# Altium schematic symbol library MPS.SchLib: 5 symbols
Pins are listed as number, name and electrical type; pins without a type are passive.

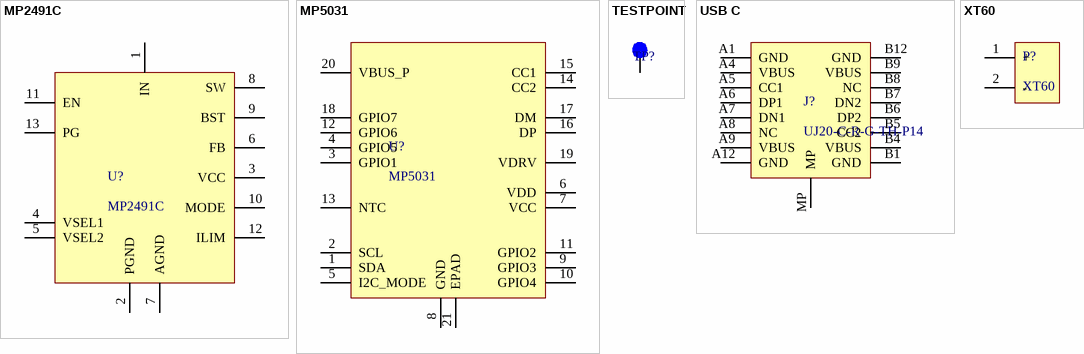
[diagram p0: symbols MP2491C to XT60]

## MP2491C
designator U?
footprint QFN-13-MPS2491C (QFN, 14-Leads, Body 2,50x2,55mm, Pitch 0,50mm/0,65mm, IPC Medium Density)
pins: 1 IN, 2 PGND, 3 VCC, 4 VSEL1, 5 VSEL2, 6 FB, 7 AGND, 8 SW, 9 BST, 10 MODE, 11 EN, 12 ILIM, 13 PG

## MP5031
designator U?
footprint QFN-20-MP5031 (QFN, 20-Leads, Body 4,00x4,00mm, Pitch 0,50mm, Thermal Pad 2,10x2,10mm, IPC Medium Density)
pins: 1 SDA, 2 SCL, 3 GPIO1, 4 GPIO5, 5 I2C_MODE, 6 VDD, 7 VCC, 8 GND, 9 GPIO3, 10 GPIO4, 11 GPIO2, 12 GPIO6, 13 NTC, 14 CC2, 15 CC1, 16 DP, 17 DM, 18 GPIO7, 19 VDRV, 20 VBUS_P, 21 EPAD

## TESTPOINT
designator TP?  (value not drawn)
footprint TESTPOINT_0.3
footprint TESTPOINT_0.6
pins: 1

## USB C
designator J?, comment UJ20-C-R-G-TH-P14
footprint UJ20-C-R-G-TH-P14
pins: A1 GND, A4 VBUS, A5 CC1, A6 DP1, A7 DN1, A8 NC, A9 VBUS, A12 GND, B1 GND, B4 VBUS, B5 CC2, B6 DP2, B7 DN2, B8 NC, B9 VBUS, B12 GND, MP

## XT60
designator P?
footprint XT60 (Battery Connector)
pins: 1 +, 2 -